# Altium integrated library Analog Devices Data Converters Analog-to-Digital Converters.IntLib: 2404 symbols (part 239 of 346)
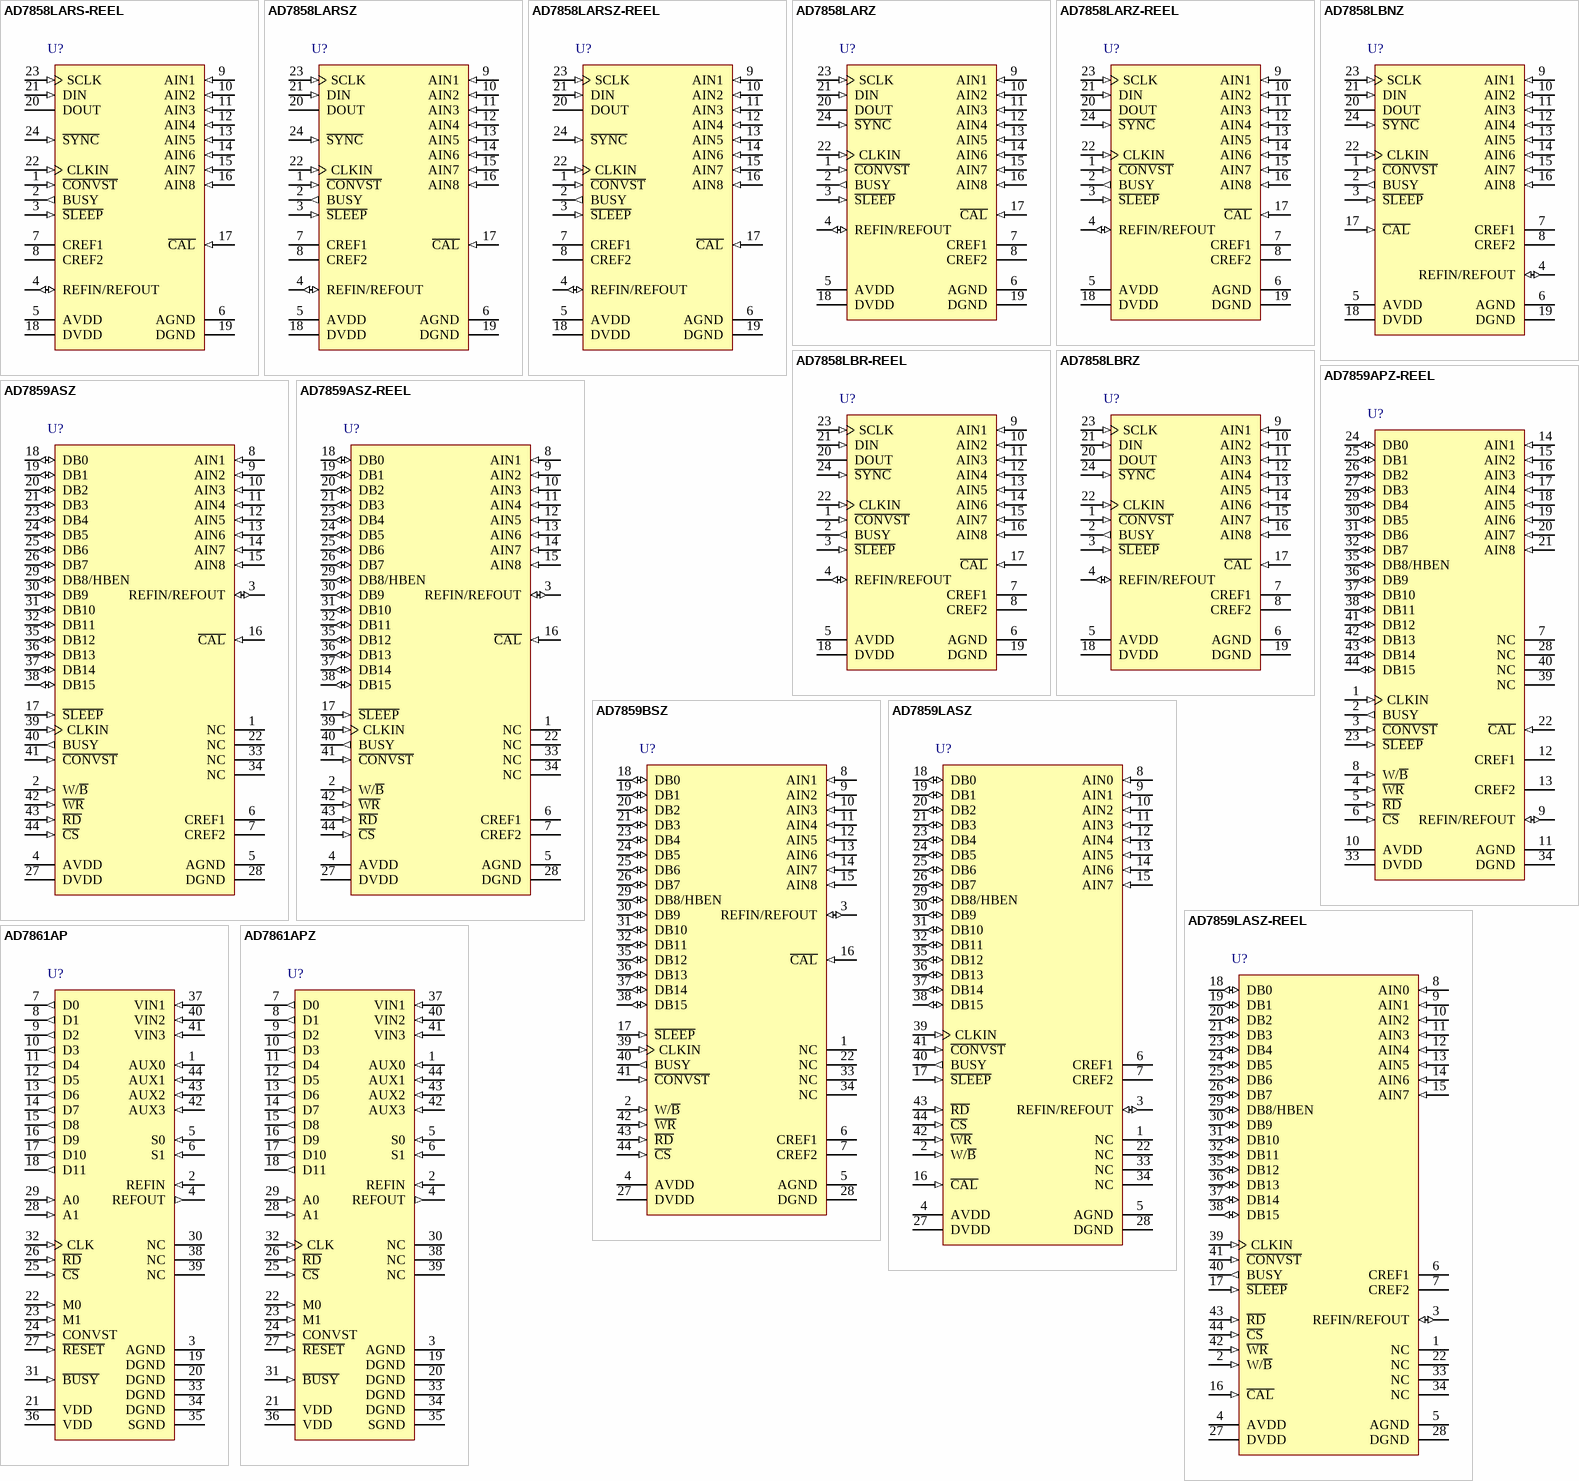
[diagram p382: symbols AD7858LARS-REEL to AD7861APZ]

## AD7859LASZ-REEL
designator U?
Octal 12-Bit Sampling Analog-to-Digital Converter with Byte, Parallel Interface, Single Supply, 3 V, 100KSPS, 0 to +70 degC, S-44-2, Pb-Free, Reel; Generic Part Number: AD7859L-100; Manufacturer: Analog Devices; PartNumber: AD7859LASZ-REEL; Resolution (Bits): 12; Channels: 8; Throughput Rate (SPS): 100K; DatasheetVersion: Rev.A; PackageVersion: 041807-A; PackageReference: S-44-2; PackageDescription: 44-Lead Metric Quad Flat Package [MQFP]; Supplier 1: Digi-Key; Supplier Part Number 1: AD7859LASZ-REEL-ND; Supplier 2: Mouser; Supplier Part Number 2: 584-AD7859LASZ-R; Interface: Byte, Par; RoHS: Y; Packing: Reel; Mounting Technology: Surface Mount; Code_JEDEC: MO-122-AA-1; ComponentLink1Description: Manufacturer URL; ComponentLink1URL: http://www.analog.com/en/index.html; ComponentLink2Description: Datasheet; ComponentLink2URL: http://www.analog.com/static/imported-files/data_sheets/AD7859.pdf; ComponentLink3Description: Package Specification; ComponentLink3URL: http://www.analog.com/static/imported-files/packages/209183S_44_2.pdf; ComponentLink4Description: Product URL; ComponentLink4URL: http://www.analog.com/en/analog-to-digital-converters/ad-converters/ad7859/products/product.html
footprint S-44-2_N (QFP, 44-Leads, Body 10x10mm, Pitch 0.8mm, IPC Medium Density)
footprint S-44-2_L (QFP, 44-Leads, Body 10x10mm, Pitch 0.8mm, IPC High Density)
footprint S-44-2_M (QFP, 44-Leads, Body 10x10mm, Pitch 0.8mm, IPC Low Density)
pins: 1 NC "No connect pins. These pins should be left unconnected", 2 W/~{B} (in) "Word/Byte input. When this input is at a logic 1, data is transferred to and from the AD7859/AD7859L in 16-bit words on pins DB0 to DB15. When this pin is at a Logic 0, byte transfer mode is enabled. Data is transferred on (See Datasheet)", 3 REFIN/REFOUT (io) "Reference Input/Output. This pin is connected to the internal reference through a series resistor and is the reference source for the analog-to-digital converter. The nominal reference voltage is 2.5 V and this appears at (See Datasheet)", 4 AVDD (power) "Analog Supply Voltage, +3.0 V to +5.5 V.", 5 AGND (power) "Analog Ground. Ground reference for track/hold, reference and DAC.", 6 CREF1 "Reference Capacitor (0.1 mF multilayer ceramic). This external capacitor is used as a charge source for the internal DAC. The capacitor should be tied between the pin and AGND.", 7 CREF2 "Reference Capacitor (0.01 mF ceramic disc). This external capacitor is used in conjunction with the on-chip reference.The capacitor should be tied between the pin and AGND.", 8 AIN0 (in) "Analog Inputs. Eight analog inputs which can be used as eight single ended inputs (referenced to AGND) or four pseudo differential inputs. Channel configuration is selected by writing to the control register. None of the (See Datasheet)", 9 AIN1 (in) "Analog Inputs. Eight analog inputs which can be used as eight single ended inputs (referenced to AGND) or four pseudo differential inputs. Channel configuration is selected by writing to the control register. None of the (See Datasheet)", 10 AIN2 (in) "Analog Inputs. Eight analog inputs which can be used as eight single ended inputs (referenced to AGND) or four pseudo differential inputs. Channel configuration is selected by writing to the control register. None of the (See Datasheet)", 11 AIN3 (in) "Analog Inputs. Eight analog inputs which can be used as eight single ended inputs (referenced to AGND) or four pseudo differential inputs. Channel configuration is selected by writing to the control register. None of the (See Datasheet)", 12 AIN4 (in) "Analog Inputs. Eight analog inputs which can be used as eight single ended inputs (referenced to AGND) or four pseudo differential inputs. Channel configuration is selected by writing to the control register. None of the (See Datasheet)", 13 AIN5 (in) "Analog Inputs. Eight analog inputs which can be used as eight single ended inputs (referenced to AGND) or four pseudo differential inputs. Channel configuration is selected by writing to the control register. None of the (See Datasheet)", 14 AIN6 (in) "Analog Inputs. Eight analog inputs which can be used as eight single ended inputs (referenced to AGND) or four pseudo differential inputs. Channel configuration is selected by writing to the control register. None of the (See Datasheet)", 15 AIN7 (in) "Analog Inputs. Eight analog inputs which can be used as eight single ended inputs (referenced to AGND) or four pseudo differential inputs. Channel configuration is selected by writing to the control register. None of the (See Datasheet)", 16 ~{CAL} (in) "Calibration Input. A logic 0 in this pin resets all logic. A rising edge on this pin initiates a calibration. This input overrides all other internal operations.", 17 ~{SLEEP} (in) "Sleep Input. This pin is used in conjunction with the PGMT0 and PGMT1 bits in the control register to determine the power-down mode. Please see the "Power-Down Options" section for details.", 18 DB0 (io) "Data Bits 0. Three state data I/O pins that are controlled by C\S\, R\D\ and W\R\. Data output is straight binary (unipolar mode) or twos complement (bipolar mode).", 19 DB1 (io) "Data Bits 1. Three state data I/O pins that are controlled by C\S\, R\D\ and W\R\. Data output is straight binary (unipolar mode) or twos complement (bipolar mode).", 20 DB2 (io) "Data Bits 2. Three state data I/O pins that are controlled by C\S\, R\D\ and W\R\. Data output is straight binary (unipolar mode) or twos complement (bipolar mode).", 21 DB3 (io) "Data Bits 3. Three state data I/O pins that are controlled by C\S\, R\D\ and W\R\. Data output is straight binary (unipolar mode) or twos complement (bipolar mode).", 22 NC "No connect pins. These pins should be left unconnected.", 23 DB4 (io) "Data Bits 4. Three state data I/O pins that are controlled by C\S\, R\D\ and W\R\. Data output is straight binary (unipolar mode) or twos complement (bipolar mode).", 24 DB5 (io) "Data Bits 5. Three state data I/O pins that are controlled by C\S\,\R\D\ and W\R\. Data output is straight binary (unipolar mode) or twos complement (bipolar mode).", 25 DB6 (io) "Data Bits 6. Three state data I/O pins that are controlled by C\S\, R\D\ and W\R\. Data output is straight binary (unipolar mode) or twos complement (bipolar mode).", 26 DB7 (io) "Data Bits 7. Three state data I/O pins that are controlled by C\S\, R\D\ and W\R\. Data output is straight binary (unipolar mode) or twos complement (bipolar mode).", 27 DVDD (power) "Digital Supply Voltage, +3.0 V to +5.5 V.", 28 DGND (power) "Digital Ground. Ground reference point for digital circuitry.", 29 DB8/HBEN (io) "Data Bits 8. Three state data I/O pins that are controlled by C\S\, R\D\ and W\R\. Data output is straight binary (unipolar mode) or twos complement (bipolar mode).", 30 DB9 (io) "Data Bits 9. Three state data I/O pins that are controlled by C\S\, R\D\ and W\R\. Data output is straight binary (unipolar mode) or twos complement (bipolar mode).", 31 DB10 (io) "Data Bits 10. Three state data I/O pins that are controlled by C\S\, R\D\ and W\R\. Data output is straight binary (unipolar mode) or twos complement (bipolar mode).", 32 DB11 (io) "Data Bits 11. Three state data I/O pins that are controlled by C\S\, R\D\ and W\R\. Data output is straight binary (unipolar mode) or twos complement (bipolar mode).", 33 NC "No connect pins. These pins should be left unconnected.", 34 NC "No connect pins. These pins should be left unconnected.", 35 DB12 (io) "Data Bits 12. Three state data I/O pins that are controlled by C\S\, R\D\ and W\R\. Data output is straight binary (unipolar mode) or twos complement (bipolar mode).", 36 DB13 (io) "Data Bits 13. Three state data I/O pins that are controlled by C\S\, R\D\ and W\R\. Data output is straight binary (unipolar mode) or twos complement (bipolar mode).", 37 DB14 (io) "Data Bits 14. Three state data I/O pins that are controlled by C\S\, R\D\ and W\R\. Data output is straight binary (unipolar mode) or twos complement (bipolar mode).", 38 DB15 (io) "Data Bits 15. Three state data I/O pins that are controlled by C\S\, R\D\ and W\R\. Data output is straight binary (unipolar mode) or twos complement (bipolar mode).", 39 CLKIN (in) "Convert Start. Logic input. A low to high transition on this input puts the track/hold into its hold mode and starts conversion. When this input is not used, it should be tied to DVDD", 40 BUSY (out) "Busy Output. The busy output is triggered high when a conversion or a calibration is initiated, and remains high until the conversion or calibration is completed.", 41 ~{CONVST} (in) "Convert Start. Logic input. A low to high transition on this input puts the track/hold into its hold mode and starts conversion. When this input is not used, it should be tied to DVDD.", 42 ~{WR} (in) "Write Input. Active low logic input. Used in conjunction with C\S\ to write to internal registers.", 43 ~{RD} (in) "Read Input. Active low logic input. Used in conjunction with C\S\ to read from internal registers.", 44 ~{CS} (in) "Chip Select Input. Active low logic input. The device is selected when this input is active"